# EAGLE library part MMC5883MA (library MMC5883MA)
8gauss 3-Axis Magnetic Sensor
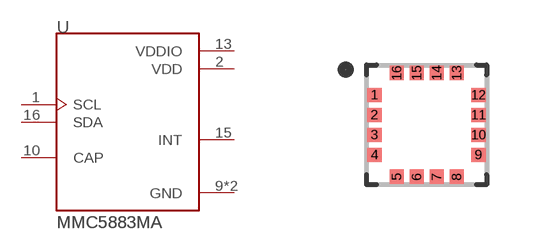
[diagram p0: symbol with the pads of PQFN50P300X300X100-16N; footprint PQFN50P300X300X100-16N]

Designator prefix U

## MMC5883MA (Description: Magnetoresistive Sensor X, Y, Z Axis 16-LGA _3x3_; Digi-Key_Part_Number: 1267-1072-1-ND; Digi-Key_Purchase_URL: https://www.digikey.com/product-detail/en/memsic-inc/MMC5883MA/1267-1072-1-ND/7063085?utm_source=snapeda&utm_medium=aggregator&utm_campaign=symbol; MF: Memsic Inc.; MP: MMC5883MA; Package: LGA-16 Memsic)  [PQFN50P300X300X100-16N]
1  SCL  in
2  VDD  pwr
9  GND  pwr
10  CAP  pas
11  GND  pwr
13  VDDIO  pwr
15  INT  out
16  SDA

## Footprint PQFN50P300X300X100-16N (pad centres in mm)
smd 0.36 x 0.35: 1 -1.3,0.75; 2 -1.3,0.25; 3 -1.3,-0.25; 4 -1.3,-0.75; 9 1.3,-0.75; 10 1.3,-0.25; 11 1.3,0.25; 12 1.3,0.75
smd 0.35 x 0.36: 5 -0.75,-1.3; 6 -0.25,-1.3; 7 0.25,-1.3; 8 0.75,-1.3; 13 0.75,1.3; 14 0.25,1.3; 15 -0.25,1.3; 16 -0.75,1.3